# EAGLE library part 87891-0808 (library 87891-0808)
Headers & Wire Housings 2.54MM PITCH SRSW T/H HEADER 8 CKT Source: Datasheet <https://www.molex.com/pdm_docs/sd/878910808_sd.pdf>
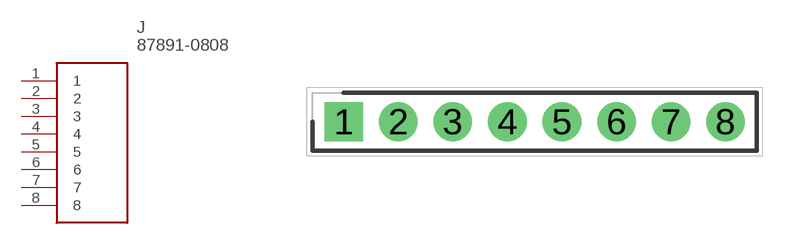
[diagram p0: symbol with the pads of HDRV8W69P0X254_1X8_2032X251X16; footprint HDRV8W69P0X254_1X8_2032X251X16]

Designator prefix J

## 87891-0808 (Description: Headers & Wire Housings 2.54MM PITCH SRSW T/H HEADER 8 CKT; Height: 16.41mm; Manufacturer_Name: Molex; Manufacturer_Part_Number: 87891-0808; Mouser_Part_Number: 538-87891-0808; Mouser_Price-Stock: https://www.mouser.co.uk/ProductDetail/Molex/87891-0808?qs=iLbezkQI%252Bsh%252BavKMBAJgwA%3D%3D)  [HDRV8W69P0X254_1X8_2032X251X16]
1  1
2  2
3  3
4  4
5  5
6  6
7  7
8  8

## Footprint HDRV8W69P0X254_1X8_2032X251X16 (pad centres in mm)
87891-0808
drill 1.2 pad 1.8 square: 1 0,0
drill 1.2 pad 1.8: 2 2.54,0; 3 5.08,0; 4 7.62,0; 5 10.16,0; 6 12.7,0; 7 15.24,0; 8 17.78,0